# Altium footprint library APSS Prototype Parts.PcbLib: 38 footprints (part 1 of 3)
Each footprint in its own frame and in the unit in brackets; x right, y up, seen from the top. Pads: shape width x height; smd on the part's side, far side on the other; paste and mask are expansions set on the pad; w line width, h text height; cw(c..) or ccw(c..) is an arc to the next point about the centre after c.
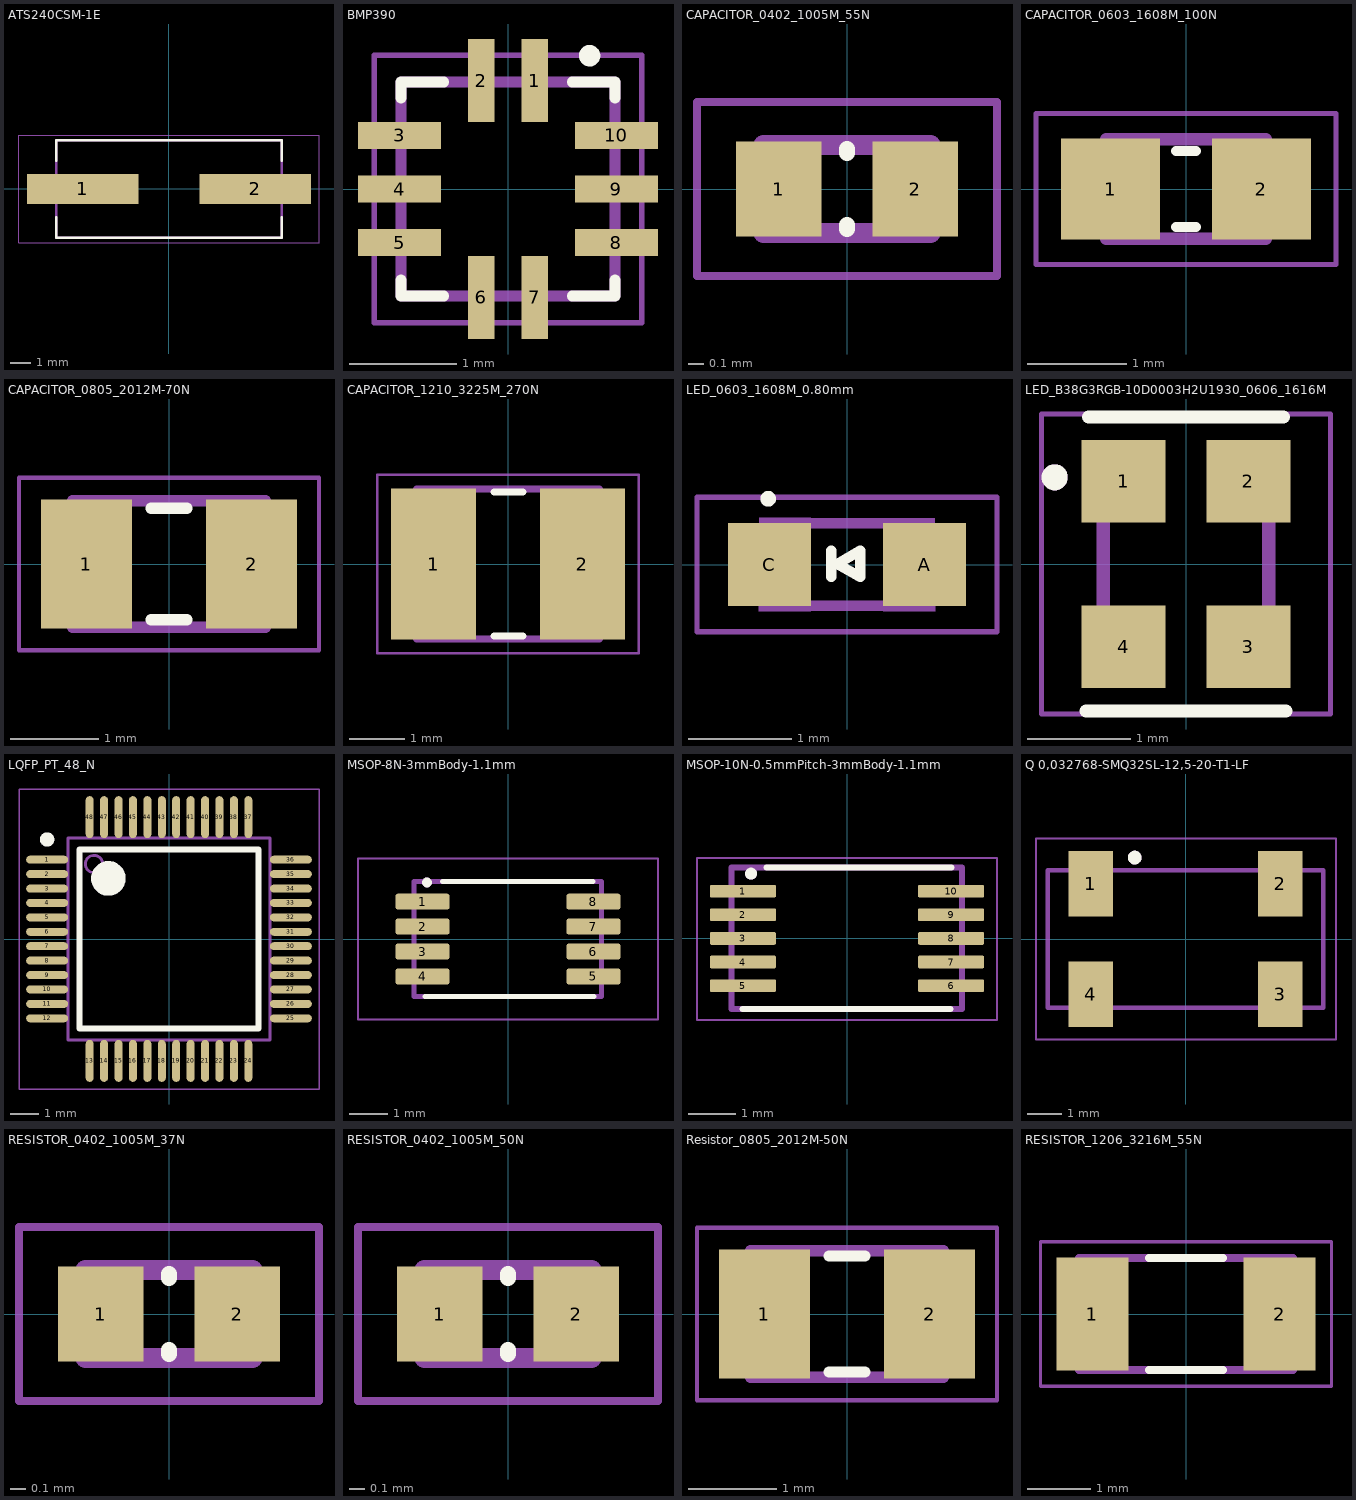
[diagram p0: the footprints below, top view; thin cyan lines are the x and y axes]

## ATS240CSM-1E [mm]
height 4.3
pads (2):
  rect 5.5x1.5 smd: 1(-4.25,0) 2(4.25,0)
Top Overlay:
  lines w0.127: -5.55,-1.4 -5.55,-2.4 5.55,-2.4 5.55,-1.4 ; -5.55,1.4 -5.55,2.4 ; -5.55,1.4 -5.55,2.4 ; 5.55,1.4 5.55,2.4 -5.55,2.4
Mechanical 13:
  lines w0.127: -6.15,-0.35 -2.45,-0.35 -2.45,0.35 -6.15,0.35 -6.15,-0.35 ; -5.555,-2.409 5.545,-2.409 5.545,2.391 -5.555,2.391 -5.555,-2.409 ; 2.45,-0.35 2.45,0.35 6.15,0.35 6.15,-0.35 2.45,-0.35
Mechanical 15:
  lines w0.05: -7.387,-2.65 7.387,-2.65 7.387,2.65 7.137,2.65 -7.137,2.65 -7.387,2.65 -7.387,-2.65
3D body: height 4.3, standoff 0.05, extent -5.55,-2.4 5.55,2.4
3D body: height 0.3, standoff 0, extent 2.45,-0.35 6.15,0.35
3D body: height 0.3, standoff 0, extent -6.151,-0.349 -2.451,0.351

## BMP390 [mm]
pads (10):
  rect 0.25x0.775 smd mask+0.051: 1(0.25,1.013) 2(-0.25,1.013) 6(-0.25,-1.013) 7(0.25,-1.013)
  rect 0.775x0.25 smd mask+0.051: 3(-1.013,0.5) 4(-1.013,0) 5(-1.013,-0.5) 8(1.013,-0.5) 9(1.013,0) 10(1.013,0.5)
Top Overlay:
  circle w0.1: c0.762,1.245 r0.05
  lines w0.1: -1,-0.85 -1,-1 -0.6,-1 ; -1,0.85 -1,1 -0.6,1 ; 0.6,-1 1,-1 1,-0.85 ; 0.6,1 1,1 1,0.85
Mechanical 13:
  lines w0.1: -1,-1 1,-1 1,1 -1,1 -1,-1
Mechanical 15:
  lines w0.05: -1.25,-1.25 1.25,-1.25 1.25,1.25 -1.25,1.25 -1.25,-1.25
3D body "BMP390L--3DModel-STEP-510211.STEP": height 0.8, standoff 0, extent -1,-1 1,1

## CAPACITOR_0402_1005M_55N [mm] "Capacitor, 0402 (1005 metric), 0.55mm height, nominal pads"
height 0.55
pads (2):
  rect 0.54x0.6 smd mask+0.051: 1(-0.432,0) 2(0.432,0)
Top Overlay:
  lines w0.1: 0,-0.254 0,-0.229 ; 0,0.229 0,0.254
Mechanical 13:
  lines w0.127: -0.53,-0.28 -0.53,0.28 0.53,0.28 0.53,-0.28 -0.53,-0.28
Mechanical 15:
  lines w0.05: -0.95,-0.55 -0.95,0.55 0.95,0.55 0.95,-0.55 -0.95,-0.55
3D body "GCM1555C1H102FA16D.step": height 0.48, standoff -0.02, extent -0.5,-0.279 0.5,0.271

## CAPACITOR_0603_1608M_100N [mm] "Capacitor, 0603 (1608 metric), 1mm high, nominal pads"
height 1
pads (2):
  rect 1x1.02 smd mask+0.051: 1(-0.759,0) 2(0.759,0)
Top Overlay:
  lines w0.1: -0.102,-0.381 0.102,-0.381 ; -0.102,0.381 0.102,0.381
Mechanical 13:
  lines w0.127: -0.8,-0.5 -0.8,0.5 0.8,0.5 0.8,-0.5 -0.8,-0.5
Mechanical 15:
  lines w0.05: -1.508,-0.758 -1.508,0.758 1.508,0.758 1.508,-0.758 -1.508,-0.758
3D body "GRM188Z71A106KA73D.step": height 0.78, standoff -0.02, extent -0.8,-0.5 0.8,0.5

## CAPACITOR_0805_2012M-70N [mm] "Capacitor, 0805 (2012 metric), 0.7mm high, nominal pads,"
height 0.5
pads (2):
  rect 1.04x1.47 smd mask+0.051: 1(-0.94,0) 2(0.94,0)
Top Overlay:
  lines w0.127: -0.203,-0.635 0.203,-0.635 ; -0.203,0.635 0.203,0.635
Mechanical 13:
  lines w0.127: -1.1,-0.72 -1.1,0.72 1.1,0.72 1.1,-0.72 -1.1,-0.72
Mechanical 15:
  lines w0.05: -1.708,-0.983 -1.708,0.983 1.708,0.983 1.708,-0.983 -1.708,-0.983
3D body "GCM2165C2A122JA16J.STEP": height 1.23, standoff -0.02, extent -1,-0.725 1,0.725

## CAPACITOR_1210_3225M_270N [mm] "Capacitor, 1210 (3225 metric), 2.7mm high, nominal pads"
height 2.7
pads (2):
  rect 1.53x2.72 smd: 1(-1.341,0) 2(1.341,0)
Top Overlay:
  lines w0.127: -0.254,-1.295 0.266,-1.295 ; -0.254,1.295 0.266,1.295
Mechanical 13:
  lines w0.127: -1.651,-1.35 -1.651,1.35 1.651,1.35 1.651,-1.35 -1.651,-1.35
Mechanical 15:
  lines w0.05: -2.355,-1.608 -2.355,1.608 2.355,1.608 2.355,-1.608 -2.355,-1.608
3D body "GRM32ER61A107ME20L.step": height 2.48, standoff -0.02, extent -1.6,-1.397 1.6,1.303

## LED_0603_1608M_0.80mm [mm] "LED, 0603 (1608 metric), 0.8mm high"
height 0.8
pads (2):
  rect 0.8x0.8 smd mask+0.051: A(0.75,0) C(-0.75,0)
Top Overlay:
  circle w0.1: c-0.762,0.635 r0.025
  lines w0.1: -0.152,-0.12 -0.152,0.134 ; -0.093,0.007 0.127,0.134 0.127,-0.12 -0.093,0.007
Mechanical 13:
  circle w0.051: c-0.625,-0.35 r0.075
  region: 0.65,0.175 0.55,0.175 0.55,0.275 0.65,0.275
  region: 0.65,-0.275 0.55,-0.275 0.55,-0.175 0.65,-0.175
  region: 0.575,-0.275 0.35,-0.275 0.35,0.275 0.575,0.275
  region: 0.85,0.25 0.35,0.25 0.35,0.45 0.85,0.45
  region: 0.851,-0.45 0.35,-0.45 0.35,-0.251 0.851,-0.251
  region: -0.351,-0.451 -0.576,-0.451 -0.576,0.451 -0.351,0.451
  region: -0.551,0.25 -0.85,0.25 -0.85,0.451 -0.551,0.451
  region: -0.35,-0.45 -0.725,-0.45 -0.725,-0.4 -0.35,-0.4
  region: -0.55,-0.276 -0.601,-0.276 -0.601,-0.225 -0.55,-0.225
  region: -0.7,-0.451 -0.851,-0.451 -0.851,-0.25 -0.7,-0.25
  lines w0.051: 0.825,-0.275 cw(c0.825,0) 0.825,0.275
  lines w0.102: -0.8,-0.3 ccw(c-0.826,0) -0.8,0.3 ; -0.375,-0.4 0.35,-0.4 ; -0.35,0.4 0.35,0.4
Mechanical 15:
  lines w0.05: -1.45,-0.65 -1.45,0.65 1.45,0.65 1.45,-0.65 -1.45,-0.65
3D body "step_temp.STEP": height 0.8, standoff 0, extent -0.8,-0.4 0.8,0.4

## LED_B38G3RGB-10D0003H2U1930_0606_1616M [mm] "RGB LED, 0606 (1616 metric), 0.4mm high"
height 0.4
pads (4):
  rect 0.813x0.8 smd mask+0.051: 1(-0.602,0.8) 2(0.602,0.8) 3(0.602,-0.8) 4(-0.602,-0.8)
Top Overlay:
  circle w0.2: c-1.27,0.838 r0.025
  lines w0.127: -0.965,-1.422 0.965,-1.422 ; -0.94,1.422 0.94,1.422
Mechanical 13:
  circle w0.2: c-1.27,0.838 r0.025
  lines w0.127: -0.8,-0.8 -0.8,0.8 ; 0.8,-0.8 0.8,0.8
Mechanical 15:
  lines w0.05: -1.397,-1.45 1.397,-1.45 1.397,1.45 -1.397,1.45 -1.397,-1.45
3D body "step_temp.STEP": height 0.4, standoff 0, extent -0.8,-0.8 0.8,0.8

## LQFP_PT_48_N [mm]
pads (48):
  oval 1.45x0.28 smd paste+0 mask+0.051: 1(-4.225,2.75) 2(-4.225,2.25) 3(-4.225,1.75) 4(-4.225,1.25) 5(-4.225,0.75) 6(-4.225,0.25) 7(-4.225,-0.25) 8(-4.225,-0.75) 9(-4.225,-1.25) 10(-4.225,-1.75) 11(-4.225,-2.25) 12(-4.225,-2.75) 25(4.225,-2.75) 26(4.225,-2.25) 27(4.225,-1.75) 28(4.225,-1.25) 29(4.225,-0.75) 30(4.225,-0.25) 31(4.225,0.25) 32(4.225,0.75) 33(4.225,1.25) 34(4.225,1.75) 35(4.225,2.25) 36(4.225,2.75)
  oval 0.28x1.45 smd paste+0 mask+0.051: 13(-2.75,-4.225) 14(-2.25,-4.225) 15(-1.75,-4.225) 16(-1.25,-4.225) 17(-0.75,-4.225) 18(-0.25,-4.225) 19(0.25,-4.225) 20(0.75,-4.225) 21(1.25,-4.225) 22(1.75,-4.225) 23(2.25,-4.225) 24(2.75,-4.225) 37(2.75,4.225) 38(2.25,4.225) 39(1.75,4.225) 40(1.25,4.225) 41(0.75,4.225) 42(0.25,4.225) 43(-0.25,4.225) 44(-0.75,4.225) 45(-1.25,4.225) 46(-1.75,4.225) 47(-2.25,4.225) 48(-2.75,4.225)
Top Overlay:
  circle w0.25: c-4.225,3.45 r0.125
  circle w0.6: c-2.1,2.1 r0.3
  lines w0.2: -3.1,-3.1 -3.1,3.1 3.1,3.1 3.1,-3.1 -3.1,-3.1
Mechanical 13:
  circle w0.1: c-2.6,2.6 r0.3
  lines w0.1: -3.5,-3.5 -3.5,3.5 3.5,3.5 3.5,-3.5 -3.5,-3.5
Mechanical 15:
  lines w0.05: -5.2,-5.2 -5.2,5.2 5.2,5.2 5.2,-5.2 -5.2,-5.2
3D body "MSP430FR2355TPT.STEP": height 1.6, standoff 0, extent -4.5,-4.5 4.5,4.5

## MSOP-8N-3mmBody-1.1mm [mm] "MSOP, 8 pin, 0.65mm pitch, 3mm wide, nominal pads, 1.1mm high"
height 1.1
pads (8):
  rrect25% 1.4x0.41 smd mask+0.051: 1(-2.226,0.975) 2(-2.226,0.325) 3(-2.226,-0.325) 4(-2.226,-0.975) 5(2.225,-0.975) 6(2.225,-0.325) 7(2.225,0.325) 8(2.225,0.975)
Top Overlay:
  circle w0.2: c-2.108,1.473 r0.025
  lines w0.127: -2.165,-1.499 2.235,-1.499 ; -1.702,1.499 2.21,1.499
Mechanical 13:
  circle w0.2: c-2.108,1.473 r0.025
  lines w0.127: -2.45,-1.499 -2.45,1.5 2.438,1.5 2.438,-1.499 -2.45,-1.499
Mechanical 15:
  lines w0.05: -3.905,-2.098 -3.905,2.1 3.905,2.1 3.905,-2.098 -3.905,-2.098
3D body "NCS2333DMR2G.step": height 1.1, standoff 0, extent -2.45,-1.5 2.45,1.5

## MSOP-10N-0.5mmPitch-3mmBody-1.1mm [mm] "MSOP, 10 pin, 0.5mm pitch, 3mm wide, nominal pads, 1.1mm high"
height 1.1
pads (10):
  rrect25% 1.4x0.27 smd mask+0.051: 1(-2.204,1) 2(-2.204,0.5) 3(-2.204,0) 4(-2.204,-0.5) 5(-2.204,-1) 6(2.203,-1) 7(2.203,-0.5) 8(2.203,0) 9(2.203,0.5) 10(2.203,1)
Top Overlay:
  circle w0.2: c-2.032,1.372 r0.025
  lines w0.127: -2.21,-1.499 2.19,-1.499 ; -1.702,1.499 2.21,1.499
Mechanical 13:
  circle w0.2: c-2.032,1.372 r0.025
  lines w0.127: -2.45,-1.499 -2.45,1.5 2.438,1.5 2.438,-1.499 -2.45,-1.499
Mechanical 15:
  lines w0.05: -3.175,-1.727 -3.175,1.702 3.175,1.702 3.175,-1.727 -3.175,-1.727
3D body "MCP47CVB02-E_UN.stp": height 1.1, standoff 0, extent -2.45,-1.5 2.45,1.5

## Q 0,032768-SMQ32SL-12,5-20-T1-LF [mm]
height 2.4
pads (4):
  rect 1.3x1.9 smd: 1(-2.75,1.6) 2(2.75,1.6) 3(2.75,-1.6) 4(-2.75,-1.6)
Top Overlay:
  circle w0.2: c-1.473,2.362 r0.1
Mechanical 13:
  circle w0.2: c-1.473,2.362 r0.1
  lines w0.127: -4,-2 -4,2 4,2 4,-2 -4,-2
Mechanical 15:
  lines w0.05: -4.339,-2.917 -4.339,2.917 4.365,2.917 4.365,-2.917 -4.339,-2.917
3D body: height 2.4, standoff 0, extent -4,-2 4,2

## RESISTOR_0402_1005M_37N [mm] "Resistor, 0402 (1005 metric), 0.37mm height, nominal pads"
height 0.37
pads (2):
  rect 0.54x0.6 smd mask+0.051: 1(-0.432,0) 2(0.432,0)
Top Overlay:
  lines w0.1: 0,-0.254 0,-0.229 ; 0,0.229 0,0.254
Mechanical 13:
  lines w0.127: -0.53,-0.28 0.53,-0.28 0.53,0.28 -0.53,0.28 -0.53,-0.28
Mechanical 15:
  lines w0.05: -0.95,-0.55 0.95,-0.55 0.95,0.55 -0.95,0.55 -0.95,-0.55
3D body "RE0402BRE07560KL.step": height 0.37, standoff 0, extent -0.5,-0.25 0.5,0.25

## RESISTOR_0402_1005M_50N [mm] "Resistor, 0402 (1005 metric), 0.5mm height, nominal pads"
height 0.5
pads (2):
  rect 0.54x0.6 smd mask+0.051: 1(-0.432,0) 2(0.432,0)
Top Overlay:
  lines w0.1: 0,-0.254 0,-0.229 ; 0,0.229 0,0.254
Mechanical 13:
  lines w0.127: -0.53,-0.28 -0.53,0.28 0.53,0.28 0.53,-0.28 -0.53,-0.28
Mechanical 15:
  lines w0.05: -0.95,-0.55 -0.95,0.55 0.95,0.55 0.95,-0.55 -0.95,-0.55
3D body "NCP15XH103F03RC.step": height 0.48, standoff -0.02, extent -0.475,-0.279 0.525,0.271

## Resistor_0805_2012M-50N [mm] "Resistor, 0805 (2012 metric), nominal pads"
height 0.5
pads (2):
  rect 1.04x1.47 smd mask+0.051: 1(-0.94,0) 2(0.94,0)
Top Overlay:
  lines w0.127: -0.203,-0.66 0.203,-0.66 ; -0.203,0.66 0.203,0.66
Mechanical 13:
  lines w0.127: -1.1,-0.72 -1.1,0.72 1.1,0.72 1.1,-0.72 -1.1,-0.72
Mechanical 15:
  lines w0.05: -1.708,-0.983 -1.708,0.983 1.708,0.983 1.708,-0.983 -1.708,-0.983
3D body "RG2012P-103-D-T5.step": height 0.5, standoff 0, extent -1,-0.625 1,0.625

## RESISTOR_1206_3216M_55N [mm]
height 0.55
pads (2):
  rect 1.13x1.77 smd mask+0.051: 1(-1.47,0) 2(1.47,0)
Top Overlay:
  lines w0.127: -0.58,-0.88 0.58,-0.88 ; -0.58,0.88 0.58,0.88
Mechanical 13:
  lines w0.127: -1.68,-0.88 1.68,-0.88 1.68,0.88 -1.68,0.88 -1.68,-0.88
Mechanical 15:
  lines w0.05: -2.285,-1.135 2.285,-1.135 2.285,1.135 -2.285,1.135 -2.285,-1.135
3D body "TNPW120610K0BETA.STEP": height 0.65, standoff 0, extent -1.6,-0.8 1.6,0.8